# Altium footprint library QUTMS_RelayLibrary.PcbLib: 1 footprints
Each footprint in its own frame and in the unit in brackets; x right, y up, seen from the top. Pads: shape width x height; smd on the part's side, far side on the other; paste and mask are expansions set on the pad; w line width, h text height; cw(c..) or ccw(c..) is an arc to the next point about the centre after c.
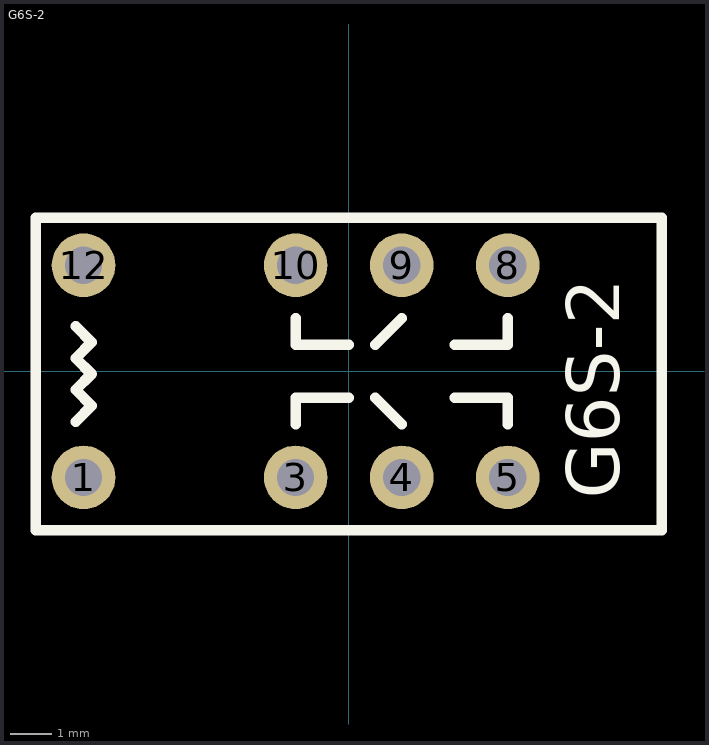
[diagram p0: the footprint, top view; thin cyan lines are the x and y axes]

## G6S-2 [mil]
pads (8):
  round 60 hole 35: 1(-250,-100) 3(-50,-100) 4(50,-100) 5(150,-100) 8(150,100) 9(50,100) 10(-50,100) 12(-250,100)
Top Overlay:
  lines w10: -257.5,-47.5 -242.5,-32.5 -257.5,-17.5 -242.5,-2.5 -257.5,12.5 -242.5,27.5 -257.5,42.5 ; -50,-50 -50,-25 0,-25 ; -50,50 -50,25 0,25 ; 25,-25 50,-50 ; 25,25 50,50 ; 100,-25 150,-25 150,-50 ; 100,25 150,25 150,50 ; -295,-150 -295,145 295,145 295,-150 -295,-150
  text "G6S-2" at 255,-120 h50
3D body "G6S_2.step": height 362.2, standoff -116.14, extent -291.34,-145 291.34,142.4